# Altium footprint library ESP8266_SHIELD_1.PcbLib: 1 footprints
Each footprint in its own frame and in the unit in brackets; x right, y up, seen from the top. Pads: shape width x height; smd on the part's side, far side on the other; paste and mask are expansions set on the pad; w line width, h text height; cw(c..) or ccw(c..) is an arc to the next point about the centre after c.
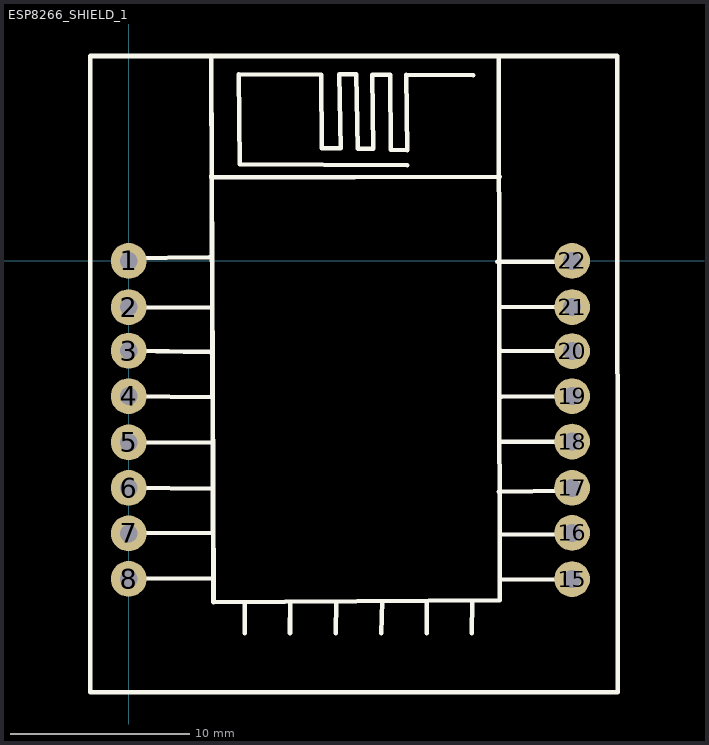
[diagram p0: the footprint, top view; thin cyan lines are the x and y axes]

## ESP8266_SHIELD_1 [mm] "ESP8266_SHIELD_1"
pads (16):
  round 2 hole 1: 1(0,0) 2(0,-2.58) 3(0,-5.02) 4(0,-7.56) 5(0,-10.14) 6(0,-12.68) 7(0,-15.23) 8(0,-17.77) 15(24.775,-17.78) 16(24.775,-15.2) 17(24.775,-12.68) 18(24.775,-10.1) 19(24.775,-7.56) 20(24.775,-5.04) 21(24.775,-2.58) 22(24.775,0)
Top Layer:
  lines w0.254: 4.615,11.41 4.615,11.46
Top Overlay:
  lines w0.254: -0.165,0.16 4.505,0.2 ; 0,-17.77 4.725,-17.73 ; 0,-15.23 4.725,-15.18 ; 0,-12.68 4.605,-12.72 ; 0,-10.14 4.605,-10.17 ; 0,-7.56 4.605,-7.62 ; 0,-5.02 4.565,-5.09 ; 0,-2.58 4.605,-2.61 ; 4.615,4.76 4.615,4.66 20.725,4.71 ; 4.615,11.32 4.736,-19.065 20.733,-18.965 20.685,11.46 ; 6.471,-20.8 6.495,-19.07 ; 9.011,-20.8 9.015,-19.04 ; 11.571,-20.8 11.605,-19.04 ; 14.111,-20.8 14.155,-19.01 ; 15.555,5.35 6.195,5.4 6.145,10.43 10.755,10.4 10.775,6.3 11.845,6.3 11.755,10.43 12.725,10.43 12.795,6.28 13.675,6.26 13.605,10.4 14.605,10.4 14.645,6.21 15.555,6.19 15.505,10.4 15.507,10.404 19.255,10.38 ; 16.645,-19.01 16.651,-20.8 ; 19.175,-20.8 19.195,-19.04 ; 20.595,-0.05 24.545,-0.05 ; 20.685,-12.91 24.515,-12.84 ; 20.725,-17.82 24.775,-17.78 ; 20.725,-15.3 24.515,-15.27 ; 20.785,-2.57 24.775,-2.58 ; 20.815,-5.03 24.775,-5.04 ; 20.845,-10.11 24.775,-10.1 ; 20.845,-7.58 24.775,-7.56 ; -2.15,-24.1 -2.15,11.45 27.3,11.45 27.325,-24.1 -2.15,-24.1
3D body "ESP-12F.STEP": height 6.17, standoff 3, extent 4.7,-13.575 20.7,10.425
3D body: height 3, standoff 0, extent -2.261,-24.1 27.395,11.49